# Altium schematic symbol library SS24-E352T.SchLib: 1 symbol
Pins are listed as number, name and electrical type; pins without a type are passive.

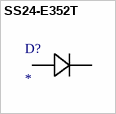
[diagram p0: symbol SS24-E352T]

## SS24-E352T
designator D?
No Description Available; Mfr_Name: Vishay
footprint DIODE_DO214AA
pins: 1, 2